# EAGLE library part WIZFI250-IFBD (library WIZnet)
WizFi250-H WizFi250 1.27mm Pinheader Type
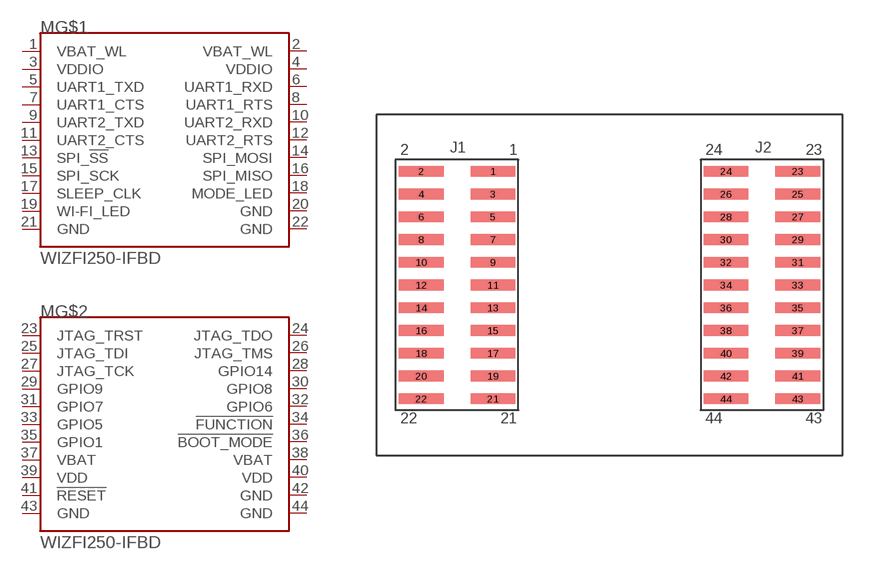
[diagram p1: symbol with the pads of WIZFI250-IFBD; footprint WIZFI250-IFBD]

Designator prefix M; gates G$1=WIZFI250-IFBD-1 G$2=WIZFI250-IFBD-2

## WIZFI250-IFBD  [WIZFI250-IFBD]
1  G$1:VBAT_WL  pas
2  G$1:VBAT_WL  pas
3  G$1:VDDIO  pas
4  G$1:VDDIO  pas
5  G$1:UART1_TXD  pas
6  G$1:UART1_RXD  pas
7  G$1:UART1_CTS  pas
8  G$1:UART1_RTS  pas
9  G$1:UART2_TXD  pas
10  G$1:UART2_RXD  pas
11  G$1:UART2_CTS  pas
12  G$1:UART2_RTS  pas
13  G$1:SPI_!SS  pas
14  G$1:SPI_MOSI  pas
15  G$1:SPI_SCK  pas
16  G$1:SPI_MISO  pas
17  G$1:SLEEP_CLK  pas
18  G$1:MODE_LED  pas
19  G$1:WI-FI_LED  pas
20  G$1:GND  pas
21  G$1:GND  pas
22  G$1:GND  pas
23  G$2:JTAG_TRST  pas
24  G$2:JTAG_TDO  pas
25  G$2:JTAG_TDI  pas
26  G$2:JTAG_TMS  pas
27  G$2:JTAG_TCK  pas
28  G$2:GPIO14  pas
29  G$2:GPIO9  pas
30  G$2:GPIO8  pas
31  G$2:GPIO7  pas
32  G$2:GPIO6  pas
33  G$2:GPIO5  pas
34  G$2:!FUNCTION  pas
35  G$2:GPIO1  pas
36  G$2:!BOOT_MODE  pas
37  G$2:VBAT  pas
38  G$2:VBAT  pas
39  G$2:VDD  pas
40  G$2:VDD  pas
41  G$2:!RESET  pas
42  G$2:GND  pas
43  G$2:GND  pas
44  G$2:GND  pas

## Footprint WIZFI250-IFBD (pad centres in mm)
smd 2.5 x 0.6: 1 -6.5,6.35; 2 -10.5,6.35; 3 -6.5,5.08; 4 -10.5,5.08; 5 -6.5,3.81; 6 -10.5,3.81; 7 -6.5,2.54; 8 -10.5,2.54; 9 -6.5,1.27; 10 -10.5,1.27; 11 -6.5,0; 12 -10.5,0; 13 -6.5,-1.27; 14 -10.5,-1.27; 15 -6.5,-2.54; 16 -10.5,-2.54; 17 -6.5,-3.81; 18 -10.5,-3.81; 19 -6.5,-5.08; 20 -10.5,-5.08; 21 -6.5,-6.35; 22 -10.5,-6.35; 23 10.5,6.35; 24 6.5,6.35; 25 10.5,5.08; 26 6.5,5.08; 27 10.5,3.81; 28 6.5,3.81; 29 10.5,2.54; 30 6.5,2.54; 31 10.5,1.27; 32 6.5,1.27; 33 10.5,0; 34 6.5,0; 35 10.5,-1.27; 36 6.5,-1.27; 37 10.5,-2.54; 38 6.5,-2.54; 39 10.5,-3.81; 40 6.5,-3.81; 41 10.5,-5.08; 42 6.5,-5.08; 43 10.5,-6.35; 44 6.5,-6.35